# Altium footprint library Molex Footprints.PcbLib: 498 footprints (part 32 of 32)
Each footprint in its own frame and in the unit in brackets; x right, y up, seen from the top. Pads: shape width x height; smd on the part's side, far side on the other; paste and mask are expansions set on the pad; w line width, h text height; cw(c..) or ccw(c..) is an arc to the next point about the centre after c.
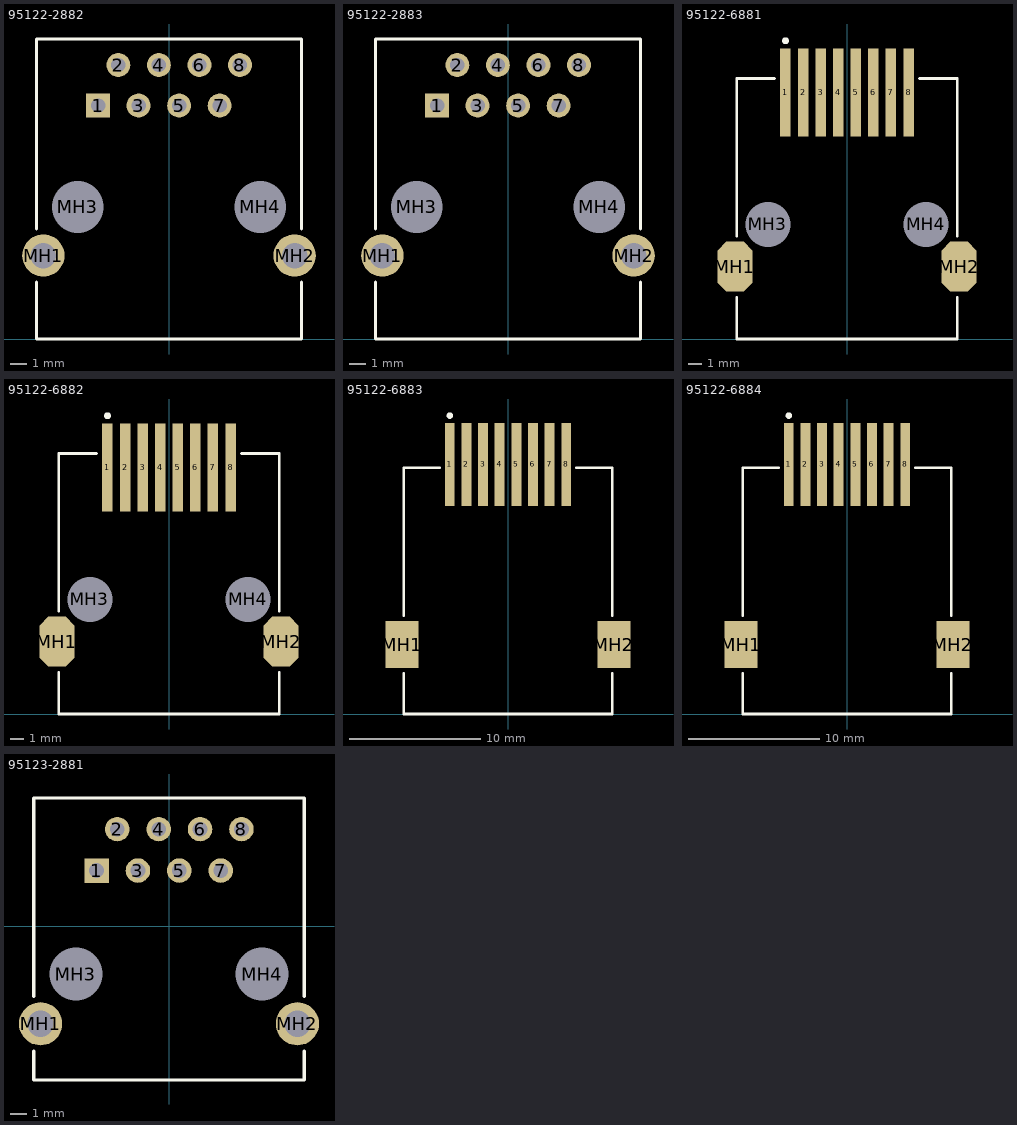
[diagram p31: the footprints below, top view; thin cyan lines are the x and y axes]

## 95122-2882 [mm] "Connector; PCB Jack, Thru-Hole; 1-Port, 8 Positions, 8 Loaded; Shielded without Lightpipes; Right Angle"
height 13
pads (12):
  rect 1.5x1.5 hole 0.9: 1(-4.445,14.63)
  round 1.5 hole 0.9: 2(-3.175,17.17) 3(-1.905,14.63) 4(-0.635,17.17) 5(0.635,14.63) 6(1.905,17.17) 7(3.175,14.63) 8(4.445,17.17)
  round 2.65 hole 1.6: MH1(-7.875,5.23) MH2(7.875,5.23)
  round 2.95 hole 3.25 unplated: MH3(-5.715,8.28) MH4(5.715,8.28)
Top Overlay:
  lines w0.2: -8.3,3.558 -8.3,0 8.3,0 8.3,3.558 ; -8.3,6.902 -8.3,18.8 8.3,18.8 8.3,6.902

## 95122-2883 [mm] "Connector; PCB Jack, Thru-Hole; 1-Port, 8 Positions, 8 Loaded; Shielded without Lightpipes; Right Angle"
height 13
pads (12):
  rect 1.5x1.5 hole 0.9: 1(-4.445,14.63)
  round 1.5 hole 0.9: 2(-3.175,17.17) 3(-1.905,14.63) 4(-0.635,17.17) 5(0.635,14.63) 6(1.905,17.17) 7(3.175,14.63) 8(4.445,17.17)
  round 2.65 hole 1.6: MH1(-7.875,5.23) MH2(7.875,5.23)
  round 2.95 hole 3.25 unplated: MH3(-5.715,8.28) MH4(5.715,8.28)
Top Overlay:
  lines w0.2: -8.3,3.558 -8.3,0 8.3,0 8.3,3.558 ; -8.3,6.902 -8.3,18.8 8.3,18.8 8.3,6.902

## 95122-6881 [mm] "Connector; PCB Jack, SM; 1-Port, 8 Positions, 8 Loaded; Shielded without Lightpipes; Right Angle"
height 13.35
pads (12):
  rect 0.76x6.35 smd: 1(-4.445,17.805) 2(-3.175,17.805) 3(-1.905,17.805) 4(-0.635,17.805) 5(0.635,17.805) 6(1.905,17.805) 7(3.175,17.805) 8(4.445,17.805)
  oct 2.54x3.6 smd: MH1(-8.085,5.22) MH2(8.085,5.22)
  round 2.95 hole 3.25 unplated: MH3(-5.715,8.28) MH4(5.715,8.28)
Top Overlay:
  circle w0.25: c-4.445,21.53 r0.125
  lines w0.2: -7.95,3.02 -7.95,0 7.95,0 7.95,3.02 ; -7.95,7.42 -7.95,18.8 -5.225,18.8 ; 5.225,18.8 7.95,18.8 7.95,7.42

## 95122-6882 [mm] "Connector; PCB Jack, SM; 1-Port, 8 Positions, 8 Loaded; Shielded without Lightpipes; Right Angle"
height 13.35
pads (12):
  rect 0.76x6.35 smd: 1(-4.445,17.805) 2(-3.175,17.805) 3(-1.905,17.805) 4(-0.635,17.805) 5(0.635,17.805) 6(1.905,17.805) 7(3.175,17.805) 8(4.445,17.805)
  oct 2.54x3.6 smd: MH1(-8.085,5.22) MH2(8.085,5.22)
  round 2.95 hole 3.25 unplated: MH3(-5.715,8.28) MH4(5.715,8.28)
Top Overlay:
  circle w0.25: c-4.445,21.53 r0.125
  lines w0.2: -7.95,3.02 -7.95,0 7.95,0 7.95,3.02 ; -7.95,7.42 -7.95,18.8 -5.225,18.8 ; 5.225,18.8 7.95,18.8 7.95,7.42

## 95122-6883 [mm] "Connector; PCB Jack, SM; 1-Port, 8 Positions, 8 Loaded; Shielded without Lightpipes; Right Angle"
height 13.35
pads (10):
  rect 0.76x6.35 smd: 1(-4.445,19.05) 2(-3.175,19.05) 3(-1.905,19.05) 4(-0.635,19.05) 5(0.635,19.05) 6(1.905,19.05) 7(3.175,19.05) 8(4.445,19.05)
  rect 2.54x3.6 smd: MH1(-8.085,5.3) MH2(8.085,5.3)
Top Overlay:
  circle w0.25: c-4.445,22.775 r0.125
  lines w0.2: -7.95,3.1 -7.95,0 7.95,0 7.95,3.1 ; -7.95,7.5 -7.95,18.8 -5.225,18.8 ; 5.225,18.8 7.95,18.8 7.95,7.5

## 95122-6884 [mm] "Connector; PCB Jack, SM; 1-Port, 8 Positions, 8 Loaded; Shielded without Lightpipes; Right Angle"
height 13.35
pads (10):
  rect 0.76x6.35 smd: 1(-4.445,19.05) 2(-3.175,19.05) 3(-1.905,19.05) 4(-0.635,19.05) 5(0.635,19.05) 6(1.905,19.05) 7(3.175,19.05) 8(4.445,19.05)
  rect 2.54x3.6 smd: MH1(-8.085,5.3) MH2(8.085,5.3)
Top Overlay:
  circle w0.25: c-4.445,22.775 r0.125
  lines w0.2: -7.95,3.1 -7.95,0 7.95,0 7.95,3.1 ; -7.95,7.5 -7.95,18.8 -5.225,18.8 ; 5.225,18.8 7.95,18.8 7.95,7.5

## 95123-2881 [mm] "Connector; PCB Jack, Thru-Hole; 1-Port, 8 Positions, 8 Loaded; Shielded without Lightpipes; Vertical"
height 16.5
pads (12):
  rect 1.5x1.5 hole 0.9: 1(-4.445,3.43)
  round 1.5 hole 0.9: 2(-3.175,5.97) 3(-1.905,3.43) 4(-0.635,5.97) 5(0.635,3.43) 6(1.905,5.97) 7(3.175,3.43) 8(4.445,5.97)
  round 2.65 hole 1.6: MH1(-7.875,-5.97) MH2(7.875,-5.97)
  round 2.95 hole 3.25 unplated: MH3(-5.715,-2.92) MH4(5.715,-2.92)
Top Overlay:
  lines w0.2: -8.3,-7.642 -8.3,-9.42 8.3,-9.42 8.3,-7.642 ; -8.3,-4.298 -8.3,7.88 8.3,7.88 8.3,-4.298